# EAGLE library part LM3410YSD/NOPB (library Smile_Shade)
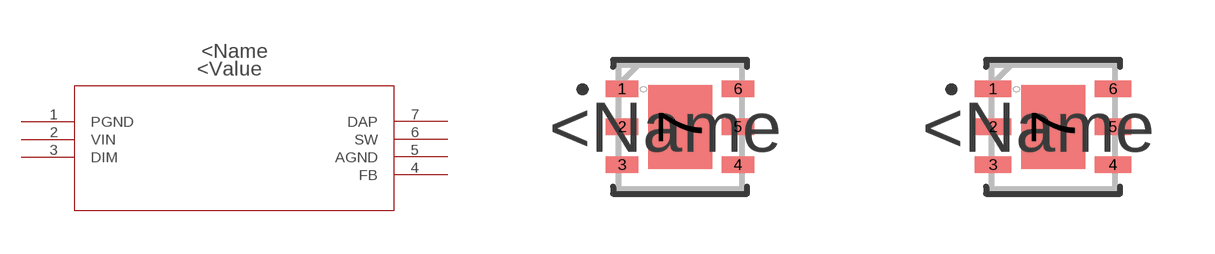
[diagram p7: symbol with the pads of SDE06A; footprints SDE06A, SDE06A-M]

Designator prefix -

## LM3410YSD/NOPB (3D_LIBRARY_NAME: National_12152008b; COPYRIGHT: Copyright C 2015 Accelerated Designs. All rights reserved; MANUFACTURER_PART_NUMBER: LM3410YSDNOPB; VENDOR: National Semiconductor)  [SDE06A]
1  PGND  pwr
2  VIN  pwr
3  DIM  in
4  FB  in
5  AGND  pwr
6  SW  pwr
7  DAP  pwr

## LM3410YSD/NOPBSDE06A-M (3D_LIBRARY_NAME: National_12152008b; COPYRIGHT: Copyright C 2015 Accelerated Designs. All rights reserved; MANUFACTURER_PART_NUMBER: LM3410YSDNOPB; VENDOR: National Semiconductor)  [SDE06A-M]
Pads as for SDE06A

## LM3410YSD/NOPBSDE06A-L (3D_LIBRARY_NAME: National_12152008b; COPYRIGHT: Copyright C 2015 Accelerated Designs. All rights reserved; MANUFACTURER_PART_NUMBER: LM3410YSDNOPB; VENDOR: National Semiconductor)  [SDE06A-L]
Pads as for SDE06A

## Footprint SDE06A (pad centres in mm)
smd 0.813 x 0.406: 1 -1.448,0.95; 2 -1.448,0; 3 -1.448,-0.95; 4 1.448,-0.95; 5 1.448,0; 6 1.448,0.95
smd 1.6 x 2.1: 7 0,0

## Footprint SDE06A-M (pad centres in mm)
smd 0.914 x 0.406: 1 -1.499,0.95; 2 -1.499,0; 3 -1.499,-0.95; 4 1.499,-0.95; 5 1.499,0; 6 1.499,0.95
smd 1.6 x 2.1: 7 0,0

## Footprint SDE06A-L (pad centres in mm)
smd 0.711 x 0.406: 1 -1.397,0.95; 2 -1.397,0; 3 -1.397,-0.95; 4 1.397,-0.95; 5 1.397,0; 6 1.397,0.95
smd 1.6 x 2.1: 7 0,0